# Altium footprint library SW_320.01E11WHT.PcbLib: 1 footprints
Each footprint in its own frame and in the unit in brackets; x right, y up, seen from the top. Pads: shape width x height; smd on the part's side, far side on the other; paste and mask are expansions set on the pad; w line width, h text height; cw(c..) or ccw(c..) is an arc to the next point about the centre after c.
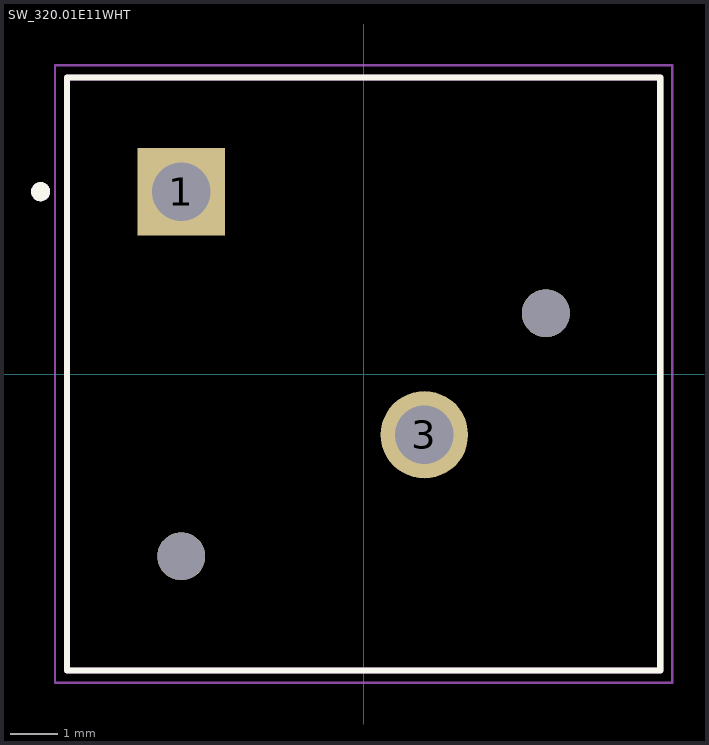
[diagram p0: the footprint, top view; thin cyan lines are the x and y axes]

## SW_320.01E11WHT [mm]
height 11.25
pads (4):
  rect 1.83x1.83 / inner round 1.83 / far side rect 1.83x1.83 hole 1.22 mask+0.102: 1(-3.81,3.81)
  round 1.83 hole 1.22 mask+0.102: 3(1.27,-1.27)
  round 1 hole 1 unplated mask+0: ""(-3.81,-3.81) ""(3.81,1.27)
Top Overlay:
  circle w0.2: c-6.75,3.81 r0.1
  lines w0.127: -6.2,-6.2 6.2,-6.2 6.2,6.2 -6.2,6.2 -6.2,-6.2
Assembly Top:
  circle w0.2: c-6.75,3.81 r0.1
  lines w0.127: -6.2,-6.2 6.2,-6.2 6.2,6.2 -6.2,6.2 -6.2,-6.2
Courtyard Top:
  lines w0.05: -6.45,-6.45 6.45,-6.45 6.45,6.45 -6.45,6.45 -6.45,-6.45
3D body "step_temp.STEP": height 9.97, standoff -4.03, extent -6.098,-6.225 6.352,6.225